# EAGLE library part LT2442 (library LTC2442)
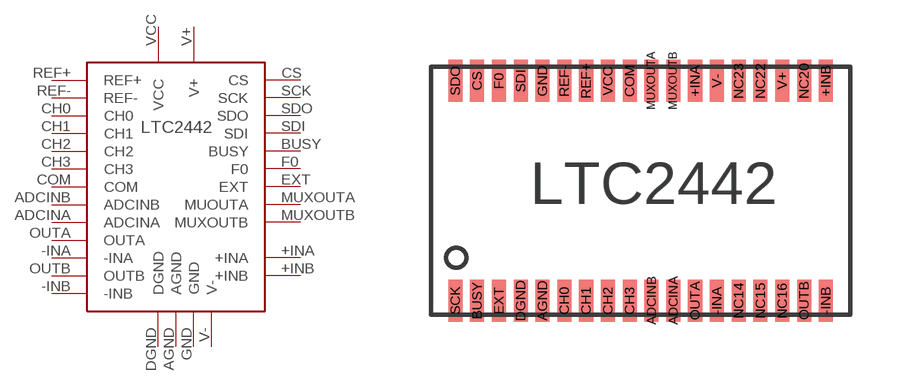
[diagram p0: symbol with the pads of SSOP-36-G; footprint SSOP-36-G]

Designator prefix ADC

## LT2442  [SSOP-36-G]
+INA  +INA
+INB  +INB
-INA  -INA
-INB  -INB
ADCINA  ADCINA
ADCINB  ADCINB
AGND  AGND
BUSY  BUSY
CH0  CH0
CH1  CH1
CH2  CH2
CH3  CH3
COM  COM
CS  CS
DGND  DGND
EXT  EXT
F0  F0
GND  GND
MUXOUTA  MUOUTA
MUXOUTB  MUXOUTB
OUTA  OUTA
OUTB  OUTB
REF+  REF+
REF-  REF-
SCK  SCK
SDI  SDI
SDO  SDO
V+  V+
V-  V-
VCC  VCC

## Footprint SSOP-36-G (pad centres in mm)
smd 0.42 x 1.25: +INA 1.625,3.275; +INB 5.525,3.275; -INA 2.275,-3.275; -INB 5.525,-3.275; ADCINA 0.975,-3.275; ADCINB 0.325,-3.275; AGND -2.925,-3.275; BUSY -4.875,-3.275; CH0 -2.275,-3.275; CH1 -1.625,-3.275; CH2 -0.975,-3.275; CH3 -0.325,-3.275; COM -0.325,3.275; CS -4.875,3.275; DGND -3.575,-3.275; EXT -4.225,-3.275; F0 -4.225,3.275; GND -2.925,3.275; MUXOUTA 0.325,3.275; MUXOUTB 0.975,3.275; NC14 2.925,-3.275; NC15 3.575,-3.275; NC16 4.225,-3.275; NC20 4.875,3.275; NC22 3.575,3.275; NC23 2.925,3.275; OUTA 1.625,-3.275; OUTB 4.875,-3.275; REF+ -1.625,3.275; REF- -2.275,3.275; SCK -5.525,-3.275; SDI -3.575,3.275; SDO -5.525,3.275; V+ 4.225,3.275; V- 2.275,3.275; VCC -0.975,3.275